# Altium integrated library ALTIUM-WL-TMRW-rev18a.IntLib: 16 symbols
Pins are listed as number, name and electrical type; pins without a type are passive.

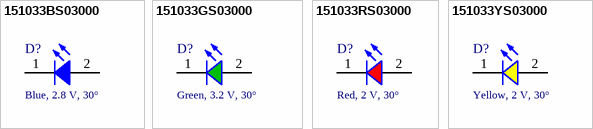
[diagram p0: symbols 151033BS03000 to 151033YS03000]

## 151033BS03000
designator D?, comment Blue, 2.8 V, 30°
WL-TMRW THT Mono-color Round Waterclear, 3 mm, with stopper, Blue, 30°, 2.8 V; Part Number: 151033BS03000; Forward Voltage: 2.8 V; Peak Wavelength: 465 nm; Dominant Wavelength: 470 nm; Luminous Intensity: 3800 mcd; ComponentLink1Description: Manufacturer; ComponentLink1URL: http://www.we-online.de; ComponentLink2Description: Datasheet; ComponentLink2URL: http://katalog.we-online.de/led/datasheet/151033BS03000.pdf; Published Date: March 2018; Publisher: Wurth Elektronik; Size: 3 mm, with stopper; Viewing Angle: 30°; Operating Temperature: -40 to 85 degC; Emitting Color: Blue
footprint WL-TMRW_3 mm_with stopper
pins: 1 K, 2 A

## 151033GS03000
designator D?, comment Green, 3.2 V, 30°
WL-TMRW THT Mono-color Round Waterclear, 3 mm, with stopper, Green, 30°, 3.2 V; Part Number: 151033GS03000; Forward Voltage: 3.2 V; Peak Wavelength: 525 nm; Dominant Wavelength: 530 nm; Luminous Intensity: 15000 mcd; ComponentLink1Description: Manufacturer; ComponentLink1URL: http://www.we-online.de; ComponentLink2Description: Datasheet; ComponentLink2URL: http://katalog.we-online.de/led/datasheet/151033GS03000.pdf; Published Date: March 2018; Publisher: Wurth Elektronik; Size: 3 mm, with stopper; Viewing Angle: 30°; Operating Temperature: -40 to 85 degC; Emitting Color: Green
footprint WL-TMRW_3 mm_with stopper
pins: 1 K, 2 A

## 151033RS03000
designator D?, comment Red, 2 V, 30°
WL-TMRW THT Mono-color Round Waterclear, 3 mm, with stopper, Red, 30°, 2 V; Part Number: 151033RS03000; Forward Voltage: 2 V; Peak Wavelength: 628 nm; Dominant Wavelength: 621 nm; Luminous Intensity: 2600 mcd; ComponentLink1Description: Manufacturer; ComponentLink1URL: http://www.we-online.de; ComponentLink2Description: Datasheet; ComponentLink2URL: http://katalog.we-online.de/led/datasheet/151033RS03000.pdf; Published Date: March 2018; Publisher: Wurth Elektronik; Size: 3 mm, with stopper; Viewing Angle: 30°; Operating Temperature: -40 to 85 degC; Emitting Color: Red
footprint WL-TMRW_3 mm_with stopper
pins: 1 K, 2 A

## 151033YS03000
designator D?, comment Yellow, 2 V, 30°
WL-TMRW THT Mono-color Round Waterclear, 3 mm, with stopper, Yellow, 30°, 2 V; Part Number: 151033YS03000; Forward Voltage: 2 V; Peak Wavelength: 592 nm; Dominant Wavelength: 589 nm; Luminous Intensity: 2100 mcd; ComponentLink1Description: Manufacturer; ComponentLink1URL: http://www.we-online.de; ComponentLink2Description: Datasheet; ComponentLink2URL: http://katalog.we-online.de/led/datasheet/151033YS03000.pdf; Published Date: March 2018; Publisher: Wurth Elektronik; Size: 3 mm, with stopper; Viewing Angle: 30°; Operating Temperature: -40 to 85 degC; Emitting Color: Yellow
footprint WL-TMRW_3 mm_with stopper
pins: 1 K, 2 A


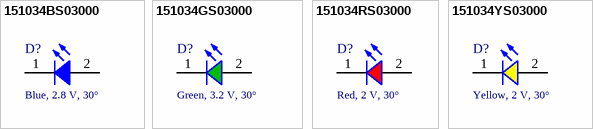
[diagram p1: symbols 151034BS03000 to 151034YS03000]

## 151034BS03000
designator D?, comment Blue, 2.8 V, 30°
WL-TMRW THT Mono-color Round Waterclear, 3 mm, without stopper, Blue, 30°, 2.8 V; Part Number: 151034BS03000; Forward Voltage: 2.8 V; Peak Wavelength: 465 nm; Dominant Wavelength: 470 nm; Luminous Intensity: 2400 mcd; ComponentLink1Description: Manufacturer; ComponentLink1URL: http://www.we-online.de; ComponentLink2Description: Datasheet; ComponentLink2URL: http://katalog.we-online.de/led/datasheet/151034BS03000.pdf; Published Date: March 2018; Publisher: Wurth Elektronik; Size: 3 mm, without stopper; Viewing Angle: 30°; Operating Temperature: -40 to 85 degC; Emitting Color: Blue
footprint WL-TMRW_3 mm_without stopper
pins: 1 K, 2 A

## 151034GS03000
designator D?, comment Green, 3.2 V, 30°
WL-TMRW THT Mono-color Round Waterclear, 3 mm, without stopper, Green, 30°, 3.2 V; Part Number: 151034GS03000; Forward Voltage: 3.2 V; Peak Wavelength: 525 nm; Dominant Wavelength: 530 nm; Luminous Intensity: 10000 mcd; ComponentLink1Description: Manufacturer; ComponentLink1URL: http://www.we-online.de; ComponentLink2Description: Datasheet; ComponentLink2URL: http://katalog.we-online.de/led/datasheet/151034GS03000.pdf; Published Date: March 2018; Publisher: Wurth Elektronik; Size: 3 mm, without stopper; Viewing Angle: 30°; Operating Temperature: -40 to 85 degC; Emitting Color: Green
footprint WL-TMRW_3 mm_without stopper
pins: 1 K, 2 A

## 151034RS03000
designator D?, comment Red, 2 V, 30°
WL-TMRW THT Mono-color Round Waterclear, 3 mm, without stopper, Red, 30°, 2 V; Part Number: 151034RS03000; Forward Voltage: 2 V; Peak Wavelength: 628 nm; Dominant Wavelength: 621 nm; Luminous Intensity: 2600 mcd; ComponentLink1Description: Manufacturer; ComponentLink1URL: http://www.we-online.de; ComponentLink2Description: Datasheet; ComponentLink2URL: http://katalog.we-online.de/led/datasheet/151034RS03000.pdf; Published Date: March 2018; Publisher: Wurth Elektronik; Size: 3 mm, without stopper; Viewing Angle: 30°; Operating Temperature: -40 to 85 degC; Emitting Color: Red
footprint WL-TMRW_3 mm_without stopper
pins: 1 K, 2 A

## 151034YS03000
designator D?, comment Yellow, 2 V, 30°
WL-TMRW THT Mono-color Round Waterclear, 3 mm, without stopper, Yellow, 30°, 2 V; Part Number: 151034YS03000; Forward Voltage: 2 V; Peak Wavelength: 592 nm; Dominant Wavelength: 589 nm; Luminous Intensity: 2100 mcd; ComponentLink1Description: Manufacturer; ComponentLink1URL: http://www.we-online.de; ComponentLink2Description: Datasheet; ComponentLink2URL: http://katalog.we-online.de/led/datasheet/151034YS03000.pdf; Published Date: March 2018; Publisher: Wurth Elektronik; Size: 3 mm, without stopper; Viewing Angle: 30°; Operating Temperature: -40 to 85 degC; Emitting Color: Yellow
footprint WL-TMRW_3 mm_without stopper
pins: 1 K, 2 A


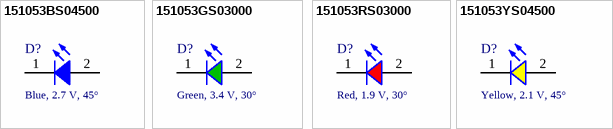
[diagram p2: symbols 151053BS04500 to 151053YS04500]

## 151053BS04500
designator D?, comment Blue, 2.7 V, 45°
WL-TMRW THT Mono-color Round Waterclear, 5 mm, with stopper, Blue, 45°, 2.7 V; Part Number: 151053BS04500; Forward Voltage: 2.7 V; Peak Wavelength: 461 nm; Dominant Wavelength: 465 nm; Luminous Intensity: 2000 mcd; ComponentLink1Description: Manufacturer; ComponentLink1URL: http://www.we-online.de; ComponentLink2Description: Datasheet; ComponentLink2URL: http://katalog.we-online.de/led/datasheet/151053BS04500.pdf; Published Date: March 2018; Publisher: Wurth Elektronik; Size: 5 mm, with stopper; Viewing Angle: 45°; Operating Temperature: -40 to 85 degC; Emitting Color: Blue
footprint WL-TMRW_5 mm_with stopper
pins: 1 K, 2 A

## 151053GS03000
designator D?, comment Green, 3.4 V, 30°
WL-TMRW THT Mono-color Round Waterclear, 5 mm, with stopper, Green, 30°, 3.4 V; Part Number: 151053GS03000; Forward Voltage: 3.4 V; Peak Wavelength: 515 nm; Dominant Wavelength: 522 nm; Luminous Intensity: 10000 mcd; ComponentLink1Description: Manufacturer; ComponentLink1URL: http://www.we-online.de; ComponentLink2Description: Datasheet; ComponentLink2URL: http://katalog.we-online.de/led/datasheet/151053GS03000.pdf; Published Date: March 2018; Publisher: Wurth Elektronik; Size: 5 mm, with stopper; Viewing Angle: 30°; Operating Temperature: -40 to 85 degC; Emitting Color: Green
footprint WL-TMRW_5 mm_with stopper
pins: 1 K, 2 A

## 151053RS03000
designator D?, comment Red, 1.9 V, 30°
WL-TMRW THT Mono-color Round Waterclear, 5 mm, with stopper, Red, 30°, 1.9 V; Part Number: 151053RS03000; Forward Voltage: 1.9 V; Peak Wavelength: 631 nm; Dominant Wavelength: 623 nm; Luminous Intensity: 5000 mcd; ComponentLink1Description: Manufacturer; ComponentLink1URL: http://www.we-online.de; ComponentLink2Description: Datasheet; ComponentLink2URL: http://katalog.we-online.de/led/datasheet/151053RS03000.pdf; Published Date: March 2018; Publisher: Wurth Elektronik; Size: 5 mm, with stopper; Viewing Angle: 30°; Operating Temperature: -40 to 85 degC; Emitting Color: Red
footprint WL-TMRW_5 mm_with stopper
pins: 1 K, 2 A

## 151053YS04500
designator D?, comment Yellow, 2.1 V, 45°
WL-TMRW THT Mono-color Round Waterclear, 5 mm, with stopper, Yellow, 45°, 2.1 V; Part Number: 151053YS04500; Forward Voltage: 2.1 V; Peak Wavelength: 592 nm; Dominant Wavelength: 590 nm; Luminous Intensity: 1500 mcd; ComponentLink1Description: Manufacturer; ComponentLink1URL: http://www.we-online.de; ComponentLink2Description: Datasheet; ComponentLink2URL: http://katalog.we-online.de/led/datasheet/151053YS04500.pdf; Published Date: March 2018; Publisher: Wurth Elektronik; Size: 5 mm, with stopper; Viewing Angle: 45°; Operating Temperature: -40 to 85 degC; Emitting Color: Yellow
footprint WL-TMRW_5 mm_with stopper
pins: 1 K, 2 A


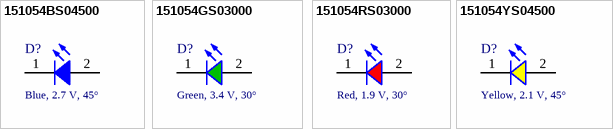
[diagram p3: symbols 151054BS04500 to 151054YS04500]

## 151054BS04500
designator D?, comment Blue, 2.7 V, 45°
WL-TMRW THT Mono-color Round Waterclear, 5 mm, without stopper, Blue, 45°, 2.7 V; Part Number: 151054BS04500; Forward Voltage: 2.7 V; Peak Wavelength: 461 nm; Dominant Wavelength: 465 nm; Luminous Intensity: 2000 mcd; ComponentLink1Description: Manufacturer; ComponentLink1URL: http://www.we-online.de; ComponentLink2Description: Datasheet; ComponentLink2URL: http://katalog.we-online.de/led/datasheet/151054BS04500.pdf; Published Date: March 2018; Publisher: Wurth Elektronik; Size: 5 mm, without stopper; Viewing Angle: 45°; Operating Temperature: -40 to 85 degC; Emitting Color: Blue
footprint WL-TMRW_5 mm_without stopper
pins: 1 K, 2 A

## 151054GS03000
designator D?, comment Green, 3.4 V, 30°
WL-TMRW THT Mono-color Round Waterclear, 5 mm, without stopper, Green, 30°, 3.4 V; Part Number: 151054GS03000; Forward Voltage: 3.4 V; Peak Wavelength: 515 nm; Dominant Wavelength: 522 nm; Luminous Intensity: 10000 mcd; ComponentLink1Description: Manufacturer; ComponentLink1URL: http://www.we-online.de; ComponentLink2Description: Datasheet; ComponentLink2URL: http://katalog.we-online.de/led/datasheet/151054GS03000.pdf; Published Date: March 2018; Publisher: Wurth Elektronik; Size: 5 mm, without stopper; Viewing Angle: 30°; Operating Temperature: -40 to 85 degC; Emitting Color: Green
footprint WL-TMRW_5 mm_without stopper
pins: 1 K, 2 A

## 151054RS03000
designator D?, comment Red, 1.9 V, 30°
WL-TMRW THT Mono-color Round Waterclear, 5 mm, without stopper, Red, 30°, 1.9 V; Part Number: 151054RS03000; Forward Voltage: 1.9 V; Peak Wavelength: 631 nm; Dominant Wavelength: 623 nm; Luminous Intensity: 5000 mcd; ComponentLink1Description: Manufacturer; ComponentLink1URL: http://www.we-online.de; ComponentLink2Description: Datasheet; ComponentLink2URL: http://katalog.we-online.de/led/datasheet/151054RS03000.pdf; Published Date: March 2018; Publisher: Wurth Elektronik; Size: 5 mm, without stopper; Viewing Angle: 30°; Operating Temperature: -40 to 85 degC; Emitting Color: Red
footprint WL-TMRW_5 mm_without stopper
pins: 1 K, 2 A

## 151054YS04500
designator D?, comment Yellow, 2.1 V, 45°
WL-TMRW THT Mono-color Round Waterclear, 5 mm, without stopper, Yellow, 45°, 2.1 V; Part Number: 151054YS04500; Forward Voltage: 2.1 V; Peak Wavelength: 592 nm; Dominant Wavelength: 590 nm; Luminous Intensity: 1500 mcd; ComponentLink1Description: Manufacturer; ComponentLink1URL: http://www.we-online.de; ComponentLink2Description: Datasheet; ComponentLink2URL: http://katalog.we-online.de/led/datasheet/151054YS04500.pdf; Published Date: March 2018; Publisher: Wurth Elektronik; Size: 5 mm, without stopper; Viewing Angle: 45°; Operating Temperature: -40 to 85 degC; Emitting Color: Yellow
footprint WL-TMRW_5 mm_without stopper
pins: 1 K, 2 A